# Altium footprint library NT-0.2mm.pcblib: 1 footprints
Each footprint in its own frame and in the unit in brackets; x right, y up, seen from the top. Pads: shape width x height; smd on the part's side, far side on the other; paste and mask are expansions set on the pad; w line width, h text height; cw(c..) or ccw(c..) is an arc to the next point about the centre after c.
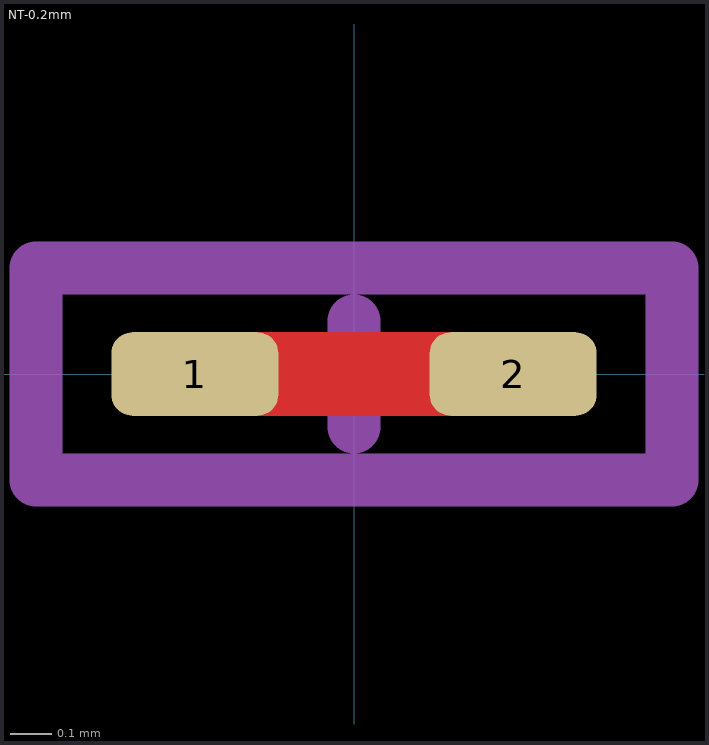
[diagram p0: the footprint, top view; thin cyan lines are the x and y axes]

## NT-0.2mm [mm] "NetTie 0.2mm"
pads (2):
  rrect50% 0.4x0.2 smd: 1(-0.381,0) 2(0.381,0)
Top Layer:
  lines w0.2: -0.381,0 0.381,0
Mechanical 13:
  lines w0.127: -0.762,-0.254 -0.762,0.254 0.762,0.254 0.762,-0.254 -0.762,-0.254
Mechanical 15:
  lines w0.127: -0.254,-0.005 0.254,-0.005 ; 0,-0.127 0,0.127 ; -0.762,-0.254 0.762,-0.254 0.762,0.254 -0.762,0.254 -0.762,-0.254
Mechanical 17:
  text "'.Designator'" at -1.143,-0.127 h0.2